# Altium schematic symbol library SWITCHES.SchLib: 34 symbols
Pins are listed as number, name and electrical type; pins without a type are passive.

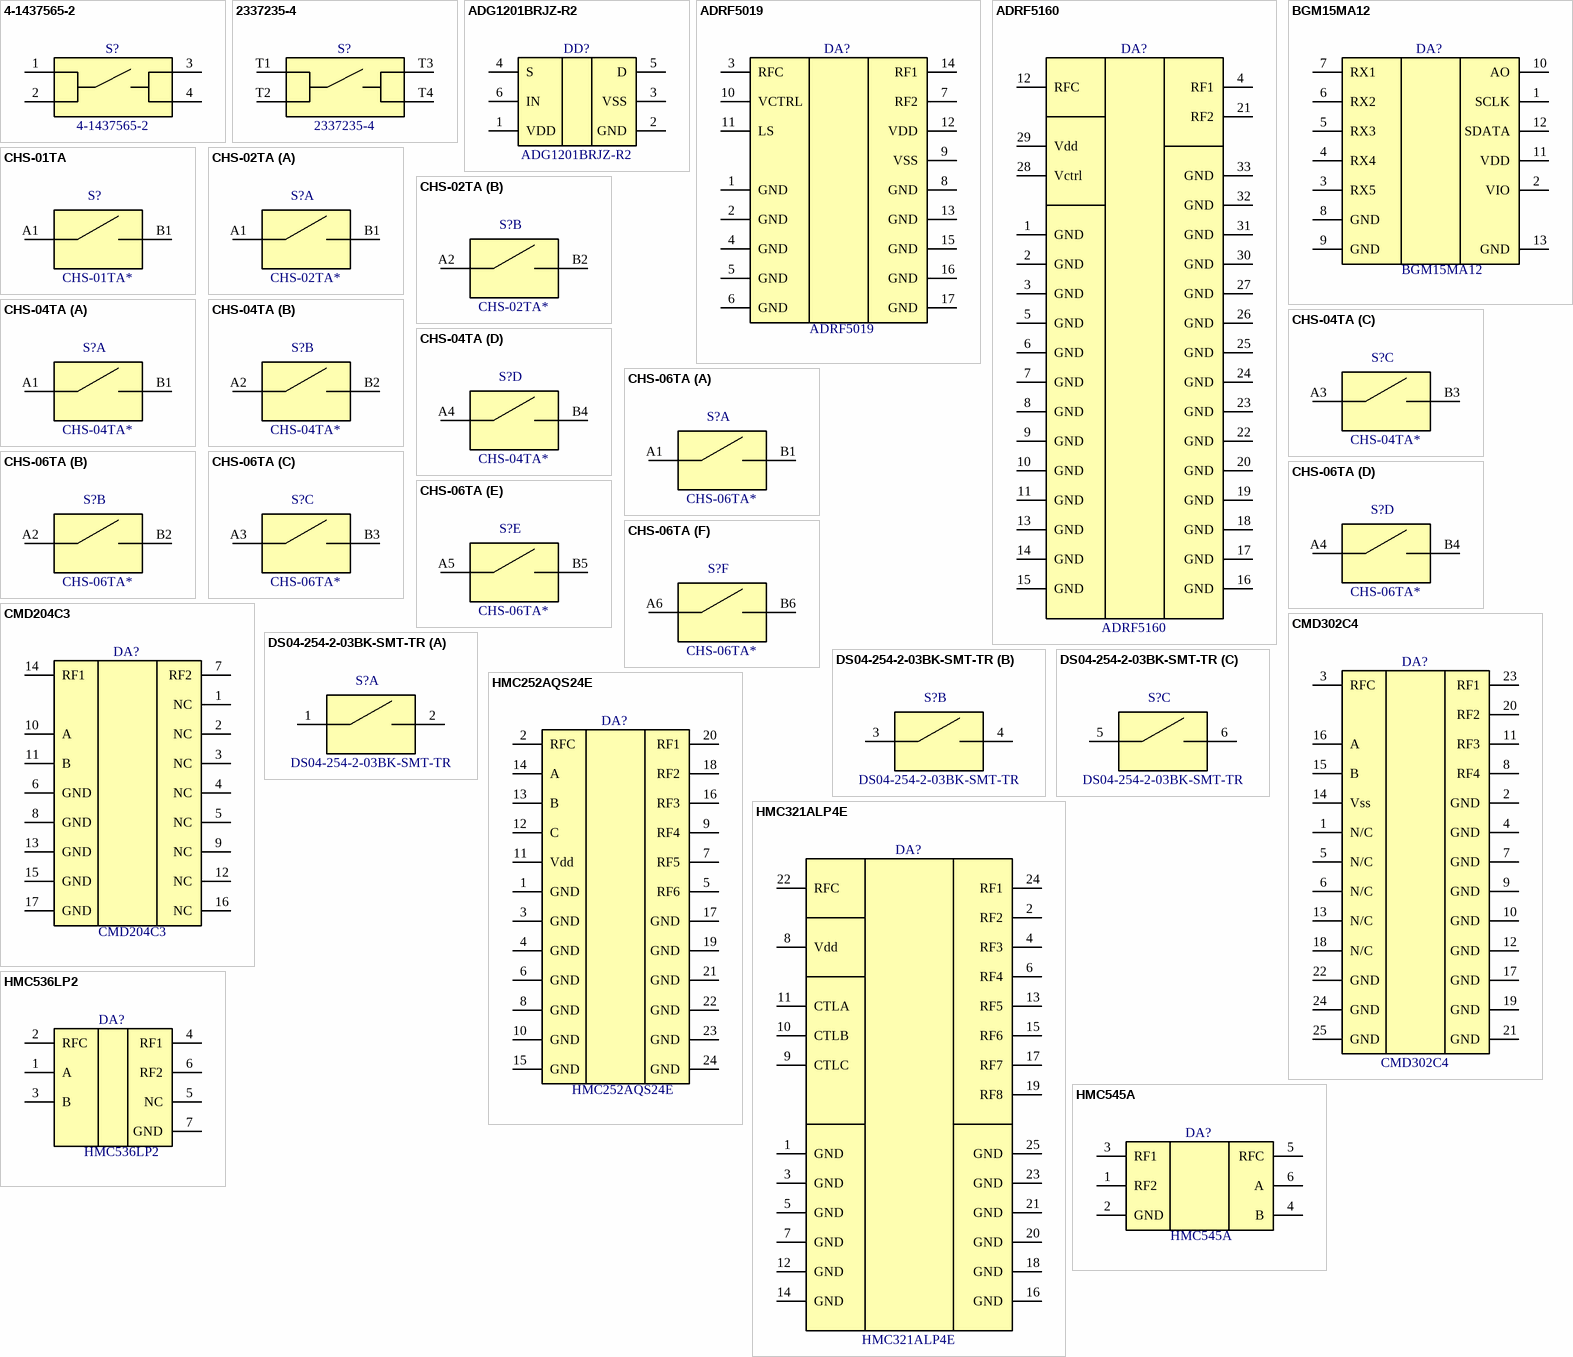
[diagram p0: symbols 4-1437565-2 to HMC545A]

## 4-1437565-2
designator S?
Tactile Switches, Round Actuator Style, NO, Copper Alloy, Silver, Low Profile, 50 mA, 24 VDC; Manufacturer: TE Connectivity; PartNumber: 4-1437565-2; ComponentLink1Description: Product Page; ComponentLink1URL: https://www.te.com/usa-en/product-4-1437565-2.html; FunctionName: *; ComponentLink2Description: DataSheet; ComponentLink2URL: https://www.te.com/usa-en/product-4-1437565-2.datasheet.pdf
footprint 4-1437565-2 (Low Profile 6X6X5 mm BLACK)
footprint 4-1437565-2-FunctionName (Low Profile 6X6X5 mm BLACK)
pins: 1, 2, 3, 4

## 2337235-4
designator S?
Tactile Switches, Round Actuator Style, NO, Stainless Steel, Silver, Low Profile, 50 mA, 12 VDC, Alcoswitch LPT; Manufacturer: TE Connectivity; PartNumber: 2337235-4; ComponentLink1Description: Product Page; ComponentLink1URL: https://www.te.com/usa-en/product-2337235-4.html; FunctionName: *; ComponentLink2Description: DataSheet; ComponentLink2URL: https://www.te.com/usa-en/product-2337235-4.datasheet.pdf
footprint 2337235-4 (TE 4.6X4.4X1.05)
footprint 2337235-4-FunctionName (TE 4.6X4.4X1.05)
pins: T1, T2, T3, T4

## ADG1201BRJZ-R2
designator DD?
Low Capacitance, Low Charge Injection, ±15 V/+12 V, iCMOS, SPST in SOT-23; Manufacturer: Analog Devices; PartNumber: ADG1201BRJZ-R2; ComponentLink1Description: Product Page; ComponentLink1URL: https://www.analog.com/en/products/adg1201.html; ComponentLink2Description: DataSheet; ComponentLink2URL: https://www.analog.com/media/en/technical-documentation/data-sheets/ADG1201.pdf
footprint SOT23-6P95_280X145L45X40N (Small Outline Transistor (SOT23), 0.95 mm pitch; 6 pin, 2.925 mm L X 1.625 mm W X 1.45 mm H body)
pins: 1 VDD, 2 GND, 3 VSS, 4 S, 5 D, 6 IN

## ADRF5019
designator DA?
Silicon, SPDT Switch, Nonreflective,  100 MHz to 13 GHz; Manufacturer: Analog Devices; PartNumber: ADRF5019; ComponentLink1Description: Product Page; ComponentLink1URL: https://www.analog.com/en/products/adrf5019.html; ComponentLink2Description: DataSheet; ComponentLink2URL: https://www.analog.com/media/en/technical-documentation/data-sheets/ADRF5019.pdf
footprint QFN17P50_300X300X95L30X25T170N (Quad Flat No-Lead (QFN with Tab), 0.50 mm pitch; square, 4 pin X 4 pin, 3.00 mm L X 3.00 mm W X 0.95 mm H body)
pins: 1 GND, 2 GND, 3 RFC, 4 GND, 5 GND, 6 GND, 7 RF2, 8 GND, 9 VSS, 10 VCTRL, 11 LS, 12 VDD, 13 GND, 14 RF1, 15 GND, 16 GND, 17 GND

## ADRF5160
designator DA?
Silicon SPDT, / Reflective Switch, 0.7 GHz to 4.0 GHz; Manufacturer: Analog Devices; PartNumber: ADRF5160; ComponentLink1Description: Product Page; ComponentLink1URL: https://www.analog.com/en/products/adrf5160.html; ComponentLink2Description: DataSheet; ComponentLink2URL: https://www.analog.com/media/en/technical-documentation/data-sheets/adrf5160.pdf
footprint QFN33P50_500X500X90L40X25T370N (Quad Flat No-Lead (QFN with Tab), 0.50 mm pitch; square, 8 pin X 8 pin, 5.00 mm L X 5.00 mm W X 0.90 mm H body)
pins: 1 GND, 2 GND, 3 GND, 4 RF1, 5 GND, 6 GND, 7 GND, 8 GND, 9 GND, 10 GND, 11 GND, 12 RFC, 13 GND, 14 GND, 15 GND, 16 GND, 17 GND, 18 GND, 19 GND, 20 GND, 21 RF2, 22 GND, 23 GND, 24 GND, 25 GND, 26 GND, 27 GND, 28 Vctrl, 29 Vdd, 30 GND, 31 GND, 32 GND, 33 GND

## BGM15MA12
designator DA?
Mid-Band LNA Multiplexer Module; Manufacturer: Infineon; PartNumber: BGM15MA12; ComponentLink1Description: Product Page; ComponentLink1URL: https://www.infineon.com/cms/en/product/rf-wireless-control/rf-modules-lmm/bgm15la12/; ComponentLink2Description: DataSheet; ComponentLink2URL: https://www.infineon.com/dgdl/Infineon-BGM15LA12-DS-v03_00-EN.pdf?fileId=5546d462503812bb0150844d0dab46c7
footprint ATSLP-12-2 (Infineon case ATSLP-12-2)
pins: 1 SCLK, 2 VIO, 3 RX5, 4 RX4, 5 RX3, 6 RX2, 7 RX1, 8 GND, 9 GND, 10 AO, 11 VDD, 12 SDATA, 13 GND

## CHS-01TA
designator S?, comment CHS-01TA*
Low profile DIP-switch 1bit washable; Manufacturer: Nidec Copal Electronics; PartNumber: CHS-01TA*; ComponentLink1Description: Product Page; ComponentLink1URL: https://www.nidec-copal-electronics.com/e/product/detail/00000603/#; ComponentLink2Description: DataSheet; ComponentLink2URL: https://www.nidec-copal-electronics.com/e/catalog/switch/chs.pdf
footprint CHS-01TA (Nicel Copal Electronics Low Profile)
pins: A1, B1

## CHS-02TA
designator S?, comment CHS-02TA*
Low profile DIP-switch 2bit washable; Manufacturer: Nidec Copal Electronics; PartNumber: CHS-02TA*; ComponentLink1Description: Product Page; ComponentLink1URL: https://www.nidec-copal-electronics.com/e/product/detail/00000603/#; ComponentLink2Description: DataSheet; ComponentLink2URL: https://www.nidec-copal-electronics.com/e/catalog/switch/chs.pdf
footprint CHS-02TA (Nicel Copal Electronics Low Profile)
part A pins: A1, B1
part B pins: A2, B2

## CHS-04TA
designator S?, comment CHS-04TA*
Low profile DIP-switch 4bit washable; Manufacturer: Nidec Copal Electronics; PartNumber: CHS-04TA*; ComponentLink1Description: Product Page; ComponentLink1URL: https://www.nidec-copal-electronics.com/e/product/detail/00000603/#; ComponentLink2Description: DataSheet; ComponentLink2URL: https://www.nidec-copal-electronics.com/e/catalog/switch/chs.pdf
footprint CHS-04TA (Nicel Copal Electronics Low Profile)
part A pins: A1, B1
part B pins: A2, B2
part C pins: A3, B3
part D pins: A4, B4

## CHS-06TA
designator S?, comment CHS-06TA*
Low profile DIP-switch 6bit washable; Manufacturer: Nidec Copal Electronics; PartNumber: CHS-06TA*; ComponentLink1Description: Product Page; ComponentLink1URL: https://www.nidec-copal-electronics.com/e/product/detail/00000603/#; ComponentLink2Description: DataSheet; ComponentLink2URL: https://www.nidec-copal-electronics.com/e/catalog/switch/chs.pdf
footprint CHS-06TA (Nicel Copal Electronics Low Profile)
part A pins: A1, B1
part B pins: A2, B2
part C pins: A3, B3
part D pins: A4, B4
part E pins: A5, B5
part F pins: A6, B6

## CMD204C3
designator DA?
DC-20 GHz SPST Non-reflective Switch; Manufacturer: Qorvo; PartNumber: CMD204C3; ComponentLink1Description: Product Page; ComponentLink1URL: https://www.qorvo.com/products/p/CMD204C3; ComponentLink2Description: DataSheet; ComponentLink2URL: https://www.qorvo.com/products/d/da007468
footprint PQFN17P50_290X290X90L32X30T150N (Pullback Quad Flat No-Lead (PQFN with Tab), 0.50 mm pitch; square, 4 pin X 4 pin, 2.90 mm L X 2.90 mm W X 0.90 mm H body)
pins: 1 NC, 2 NC, 3 NC, 4 NC, 5 NC, 6 GND, 7 RF2, 8 GND, 9 NC, 10 A, 11 B, 12 NC, 13 GND, 14 RF1, 15 GND, 16 NC, 17 GND

## CMD302C4
designator DA?
DC-20 GHz SP4T Non-reflective Switch; Manufacturer: Qorvo; PartNumber: CMD302C4; ComponentLink1Description: Product Page; ComponentLink1URL: https://www.qorvo.com/products/p/CMD302C4; ComponentLink2Description: DataSheet; ComponentLink2URL: https://www.qorvo.com/products/d/da007697
footprint PQFN25P50_390X390X100L32X30T250N (Pullback Quad Flat No-Lead (PQFN with Tab), 0.50 mm pitch; square, 6 pin X 6 pin, 3.90 mm L X 3.90 mm W X 1.00 mm H body)
pins: 1 N/C, 2 GND, 3 RFC, 4 GND, 5 N/C, 6 N/C, 7 GND, 8 RF4, 9 GND, 10 GND, 11 RF3, 12 GND, 13 N/C, 14 Vss, 15 B, 16 A, 17 GND, 18 N/C, 19 GND, 20 RF2, 21 GND, 22 GND, 23 RF1, 24 GND, 25 GND

## DS04-254-2-03BK-SMT-TR
designator S?
Same Sky DIP-Switch, DS04-254-SMT Series, 3 pos; PartNumber: DS04-254-2-03BK-SMT-TR; Manufacturer: Same Sky; ComponentLink1Description: Product Page; ComponentLink1URL: https://www.sameskydevices.com/product/switches/dip-switches/ds04-254-2-03bk-smt-tr; ComponentLink2Description: DataSheet; ComponentLink2URL: https://www.sameskydevices.com/product/resource/ds04-254-smt.pdf
footprint DS04-254-2-03BK-SMT-TR (Same Sky DIP-Switch, DS04-254-SMT Series, 3 pos)
part A pins: 1, 2
part B pins: 3, 4
part C pins: 5, 6

## HMC252AQS24E
designator DA?
GaAs MMIC SP6T NON-REFLECTIVESWITCH, DC - 3 GHz; Manufacturer: Analog Devices; PartNumber: HMC252AQS24E; ComponentLink1Description: Product Page; ComponentLink1URL: https://www.analog.com/en/products/hmc252a.html; ComponentLink2Description: DataSheet; ComponentLink2URL: https://www.analog.com/media/en/technical-documentation/data-sheets/hmc252A.pdf
footprint SOP64P600X175-24N (SOP, 24-Leads, Body 8.65x3.90mm, Pitch 0.64mm, IPC Medium Density)
pins: 1 GND, 2 RFC, 3 GND, 4 GND, 5 RF6, 6 GND, 7 RF5, 8 GND, 9 RF4, 10 GND, 11 Vdd, 12 C, 13 B, 14 A, 15 GND, 16 RF3, 17 GND, 18 RF2, 19 GND, 20 RF1, 21 GND, 22 GND, 23 GND, 24 GND

## HMC321ALP4E
designator DA?
SP8T NON-REFLECTIVE / POSITIVE CONTROL SWITCH, DC - 8 GHz; Manufacturer: Analog Devices; ComponentLink1Description: Product Page; ComponentLink1URL: https://www.analog.com/en/products/hmc321a.html; PartNumber: HMC321ALP4E; ComponentLink2Description: DataSheet; ComponentLink2URL: https://www.analog.com/media/en/technical-documentation/data-sheets/HMC1118.pdf
footprint QFN25P50_400X400X95L40X25T270N (Quad Flat No-Lead (QFN with Tab), 0.50 mm pitch; square, 6 pin X 6 pin, 4.00 mm L X 4.00 mm W X 0.95 mm H body)
pins: 1 GND, 2 RF2, 3 GND, 4 RF3, 5 GND, 6 RF4, 7 GND, 8 Vdd, 9 CTLC, 10 CTLB, 11 CTLA, 12 GND, 13 RF5, 14 GND, 15 RF6, 16 GND, 17 RF7, 18 GND, 19 RF8, 20 GND, 21 GND, 22 RFC, 23 GND, 24 RF1, 25 GND

## HMC536LP2
designator DA?
GaAs MMIC POSITIVE CONTROL T/R SWITCH, DC - 6 GHz; Manufacturer: Analog Devices; PartNumber: HMC536LP2; ComponentLink1Description: Product Page; ComponentLink1URL: https://www.analog.com/en/products/hmc536lp2.html; ComponentLink2Description: DataSheet; ComponentLink2URL: https://www.analog.com/media/en/technical-documentation/data-sheets/hmc536chips.pdf
footprint SON7P65_200X200X100L35X25T140X80N (Small Outline No-Lead (SON with Tab), 0.65 mm pitch; 6 pin, 2.00 mm L X 2.00 mm W X 1.00 mm H body)
pins: 1 A, 2 RFC, 3 B, 4 RF1, 5 NC, 6 RF2, 7 GND

## HMC545A
designator DA?
GaAs MMIC SPDT SWITCH, DC - 3 GHz; Manufacturer: Analog Devices; PartNumber: HMC545A; ComponentLink1Description: Product Page; ComponentLink1URL: https://www.analog.com/en/products/hmc545a.html; ComponentLink2Description: DataSheet; ComponentLink2URL: https://www.analog.com/media/en/technical-documentation/data-sheets/HMC545A_545AE.pdf
footprint SOP6P95_290X280X145L45X40N (Small Outline Pkg (SOP), 0.95 mm pitch; 6 pin, 2.90 mm L X 1.60 mm W X 1.45 mm H body)
pins: 1 RF2, 2 GND, 3 RF1, 4 B, 5 RFC, 6 A

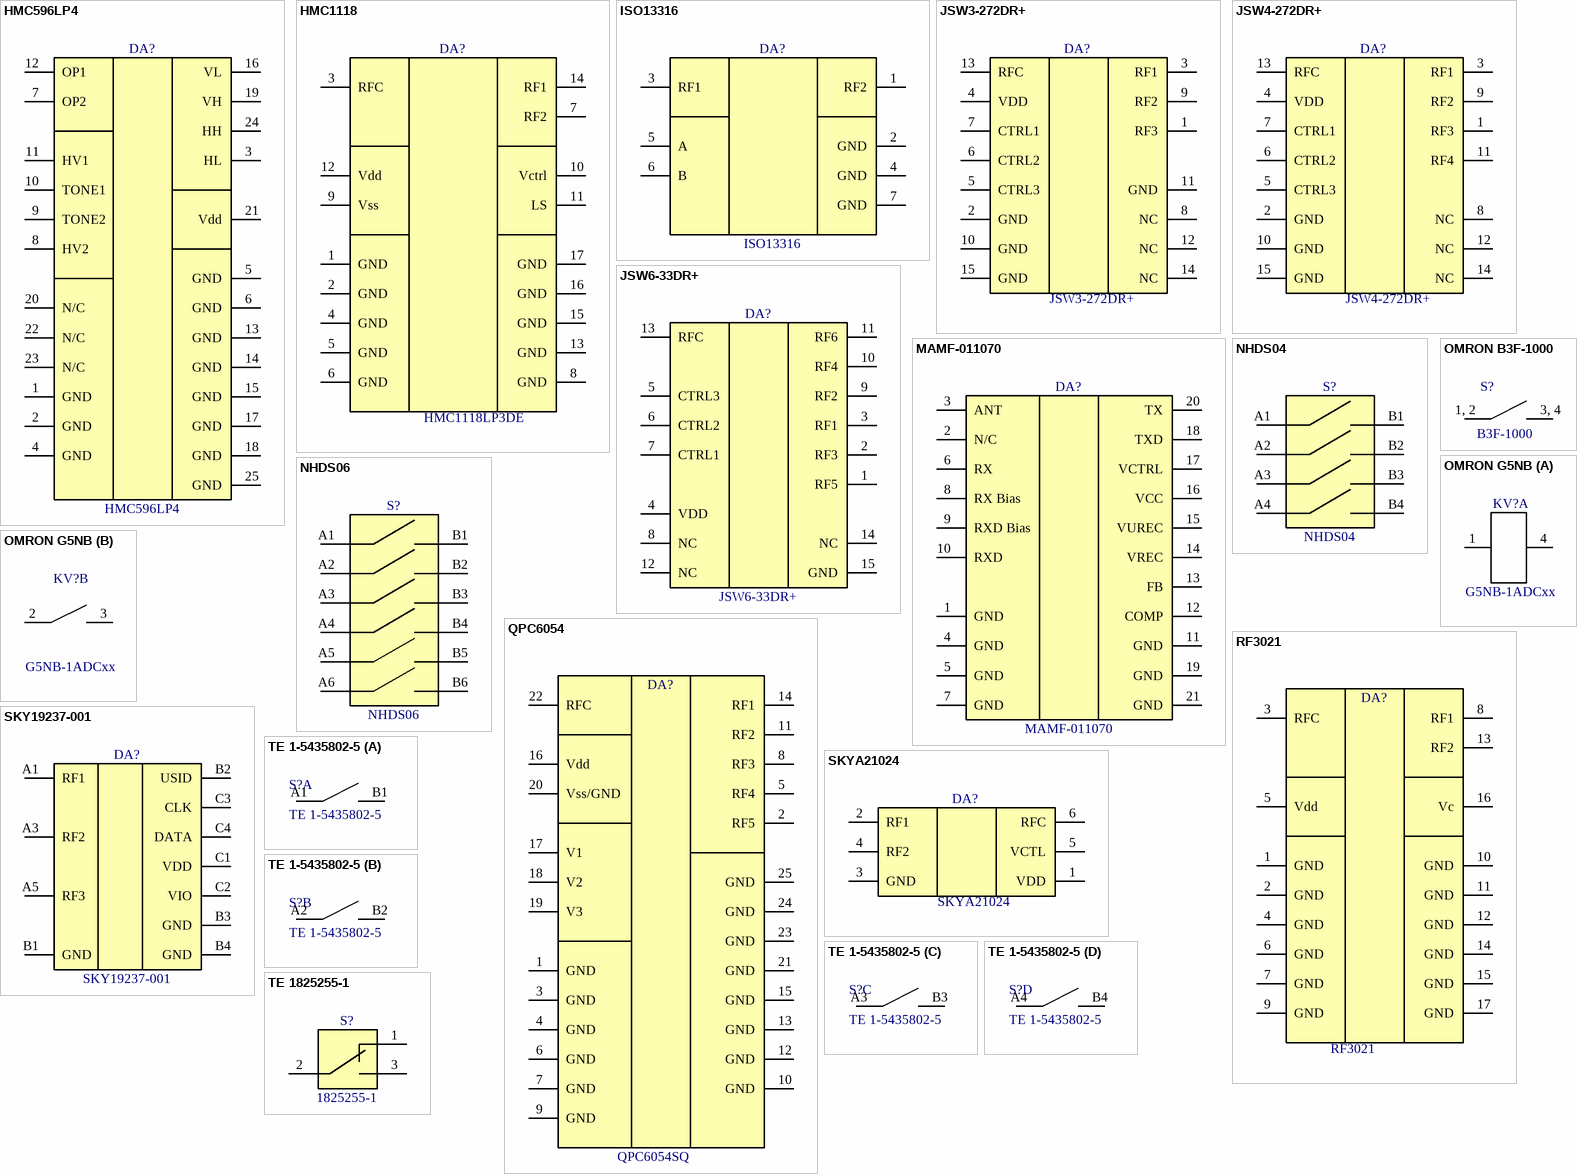
[diagram p1: symbols HMC596LP4 to TE 1825255-1]

## HMC596LP4
designator DA?
SMT CMOS 4x2 SWITCH MATRIX, 0.2 - 3.0 GHz; Manufacturer: Analog Devices; PartNumber: HMC596LP4; ComponentLink1Description: Product Page; ComponentLink1URL: https://www.analog.com/en/products/hmc596.html; ComponentLink2Description: DataSheet; ComponentLink2URL: https://www.analog.com/media/en/technical-documentation/data-sheets/hmc596.pdf
footprint QFN25P50_400X400X100L40X24T280N (Quad Flat No-Lead (QFN with Tab), 0.50 mm pitch; square, 6 pin X 6 pin, 4.00 mm L X 4.00 mm W X 1.00 mm H body)
pins: 1 GND, 2 GND, 3 HL, 4 GND, 5 GND, 6 GND, 7 OP2, 8 HV2, 9 TONE2, 10 TONE1, 11 HV1, 12 OP1, 13 GND, 14 GND, 15 GND, 16 VL, 17 GND, 18 GND, 19 VH, 20 N/C, 21 Vdd, 22 N/C, 23 N/C, 24 HH, 25 GND

## HMC1118
designator DA?, comment HMC1118LP3DE
High Isolation Nonreflective Switch, 9 kHz to 13.0 GHz; Manufacturer: Analog Devices; ComponentLink1Description: Product Page; ComponentLink1URL: https://www.analog.com/en/products/HMC1118.html; PartNumber: HMC1118LP3DE; ComponentLink2Description: DataSheet; ComponentLink2URL: https://www.analog.com/media/en/technical-documentation/data-sheets/HMC1118.pdf
footprint PQFN50P300X300X85_HS-17M (PQFN, 16-Leads, Body 3,00x3,00mm, Pitch 0,50mm, Thermal Pad 1,50x1,50mm, IPC Low Density)
pins: 1 GND, 2 GND, 3 RFC, 4 GND, 5 GND, 6 GND, 7 RF2, 8 GND, 9 Vss, 10 Vctrl, 11 LS, 12 Vdd, 13 GND, 14 RF1, 15 GND, 16 GND, 17 GND

## ISO13316
designator DA?
Non-Reflective Switch, DC to 6 GHz; Manufacturer: Skyworks; PartNumber: ISO13316; ComponentLink1Description: Product Page; ComponentLink1URL: https://www.skyworksinc.com/en/Products/switches/ISO13316; ComponentLink2Description: DataSheet; ComponentLink2URL: https://www.skyworksinc.com/-/media/SkyWorks/Documents/Products/2601-2700/ISO13316_203249B.pdf
footprint ISO-13316
pins: 1 RF2, 2 GND, 3 RF1, 4 GND, 5 A, 6 B, 7 GND

## JSW3-272DR+
designator DA?
Reflective SP3T, SMT Solid State Switch, 5 - 2700 MHz, 50Ω; Manufacturer: Mini-Circuits; PartNumber: JSW3-272DR+; ComponentLink1Description: Product Page; ComponentLink1URL: https://www.minicircuits.com/WebStore/dashboard.html?model=JSW3-272DR%2B; ComponentLink2Description: DataSheet; ComponentLink2URL: https://www.minicircuits.com/WebStore/dashboardPdf?model=JSW3-272DR%2B
footprint MT1817 (Mini-Circuits case MT1817)
pins: 1 RF3, 2 GND, 3 RF1, 4 VDD, 5 CTRL3, 6 CTRL2, 7 CTRL1, 8 NC, 9 RF2, 10 GND, 11 GND, 12 NC, 13 RFC, 14 NC, 15 GND

## JSW4-272DR+
designator DA?
SP4T RF Switch 50Ω 5 to 2700 MHz High Power 3W; Manufacturer: Mini-Circuits; PartNumber: JSW4-272DR+; ComponentLink1Description: Product Page; ComponentLink1URL: https://www.minicircuits.com/WebStore/dashboard.html?model=JSW4-272DR%2B; ComponentLink2Description: DataSheet; ComponentLink2URL: https://www.minicircuits.com/WebStore/dashboardPdf?model=JSW4-272DR%2B
footprint MT1817 (Mini-Circuits case MT1817)
pins: 1 RF3, 2 GND, 3 RF1, 4 VDD, 5 CTRL3, 6 CTRL2, 7 CTRL1, 8 NC, 9 RF2, 10 GND, 11 RF4, 12 NC, 13 RFC, 14 NC, 15 GND

## JSW6-33DR+
designator DA?
SP6T RF Switch 50Ω 5 to 2700 MHz High Power 3W; Manufacturer: Mini-Circuits; PartNumber: JSW6-33DR+; ComponentLink1Description: Product Page; ComponentLink1URL: https://www.minicircuits.com/WebStore/dashboard.html?model=JSW6-33DR%2B; ComponentLink2Description: DataSheet; ComponentLink2URL: https://www.minicircuits.com/WebStore/dashboardPdf?model=JSW6-33DR%2B
footprint MT1817 (Mini-Circuits case MT1817)
pins: 1 RF5, 2 RF3, 3 RF1, 4 VDD, 5 CTRL3, 6 CTRL2, 7 CTRL1, 8 NC, 9 RF2, 10 RF4, 11 RF6, 12 NC, 13 RFC, 14 NC, 15 GND

## MAMF-011070
designator DA?
High Power Switch with Integrated Bias Control; Manufacturer: MACOM; PartNumber: MAMF-011070; ComponentLink1Description: Product Page; ComponentLink1URL: https://www.macom.com/products/product-detail/MAMF-011070; ComponentLink2Description: DataSheet; ComponentLink2URL: https://cdn.macom.com/datasheets/MAMF-011070.pdf
footprint QFN21P65_500X500X160L47X30T320N (Quad Flat No-Lead (QFN with Tab), 0.65 mm pitch; square, 5 pin X 5 pin, 5.00 mm L X 5.00 mm W X 1.60 mm H body)
pins: 1 GND, 2 N/C, 3 ANT, 4 GND, 5 GND, 6 RX, 7 GND, 8 RX Bias, 9 RXD Bias, 10 RXD, 11 GND, 12 COMP, 13 FB, 14 VREC, 15 VUREC, 16 VCC, 17 VCTRL, 18 TXD, 19 GND, 20 TX, 21 GND

## NHDS04
designator S?
SWITCH SLIDE DIP SPST 25MA 24V 4POS ON; Manufacturer: Omron; PartNumber: NHDS04
footprint DIP4_SOIC8P127_631X670X145L65X40 (DIP4 based on Small Outline IC (SOIC), 1.27 mm pitch; 8 pin, 6.31 mm L X 4.50 mm W X 1.45 mm H body)
pins: A1, A2, A3, A4, B1, B2, B3, B4

## NHDS06
designator S?
SWITCH SLIDE DIP SPST 25MA 24V 6POS ON; Manufacturer: Omron; PartNumber: NHDS06
footprint DIP6_SOIC12P127_885X670X145L65X40 (DIP6 based on Small Outline IC (SOIC), 1.27 mm pitch; 12 pin, 8.85 mm L X 4.50 mm W X 1.45 mm H body)
pins: A1, A2, A3, A4, A5, A6, B1, B2, B3, B4, B5, B6

## OMRON B3F-1000
designator S?, comment B3F-1000
Tactile Switch 6x6x4.3, Ivory; Manufacturer: Omron; PartNumber: B3F-1000; ComponentLink1Description: Product Page; ComponentLink1URL: https://components.omron.com/eu-en/products/switches/B3F; ComponentLink2Description: DataSheet; ComponentLink2URL: https://components.omron.com/eu-en/asset/54416; FunctionName: *
footprint OMRON B3F-1000 (Tactile Switch 6x6x4.3, Ivory)
pins: 1, 2 IN1, 3, 4 IN2

## OMRON G5NB
designator KV?, comment G5NB-1ADCxx
A Slim Compact Relay with 3 A Switching / Capability and 10-kV Impulse Withstand / Voltage, Form A (SPST-NO), No Polatity; Manufacturer: Omron; PartNumber: G5NB-1ADCxx
footprint OMRON G5NB (4 pin Relay 20.4x7.0x15.0)
part A pins: 1, 4
part B pins: 2, 3

## QPC6054
designator DA?, comment QPC6054SQ
High Isolation SP5T Switch 5 MHz to 6000 MHz; Manufacturer: Qorvo; PartNumber: QPC6054SQ; ComponentLink1Description: Product Page; ComponentLink1URL: https://www.qorvo.com/products/p/QPC6054; ComponentLink2Description: DataSheet; ComponentLink2URL: https://www.qorvo.com/products/d/da000273
footprint QFN25P50_400X400X95L40X25T270N (Quad Flat No-Lead (QFN with Tab), 0.50 mm pitch; square, 6 pin X 6 pin, 4.00 mm L X 4.00 mm W X 0.95 mm H body)
pins: 1 GND, 2 RF5, 3 GND, 4 GND, 5 RF4, 6 GND, 7 GND, 8 RF3, 9 GND, 10 GND, 11 RF2, 12 GND, 13 GND, 14 RF1, 15 GND, 16 Vdd, 17 V1, 18 V2, 19 V3, 20 Vss/GND, 21 GND, 22 RFC, 23 GND, 24 GND, 25 GND

## RF3021
designator DA?
High Isolation, Single Bit Control,Reflective Switch; Manufacturer: Qorvo; ComponentLink1Description: Product Page; ComponentLink1URL: https://www.qorvo.com/products/p/RF3021; PartNumber: RF3021; ComponentLink2Description: DataSheet; ComponentLink2URL: https://www.qorvo.com/products/d/da000416
footprint PQFN50P300X300X85_HS-17M (PQFN, 16-Leads, Body 3,00x3,00mm, Pitch 0,50mm, Thermal Pad 1,50x1,50mm, IPC Low Density)
pins: 1 GND, 2 GND, 3 RFC, 4 GND, 5 Vdd, 6 GND, 7 GND, 8 RF1, 9 GND, 10 GND, 11 GND, 12 GND, 13 RF2, 14 GND, 15 GND, 16 Vc, 17 GND

## SKY19237-001
designator DA?
0.7 to 2.7 GHz Triple SPST (3xSPST) Shunt MIPI® Antenna Tuning Switch; Manufacturer: Skyworks; PartNumber: SKY19237-001; ComponentLink1Description: Product Page; ComponentLink1URL: https://www.skyworksinc.com/en/Products/switches/SKY19237-001; ComponentLink2Description: DataSheet; ComponentLink2URL: https://www.skyworksinc.com/-/media/SkyWorks/Documents/Products/2201-2300/SKY19237-001_203679H.pdf
footprint SKY19237-001 (Skyworks BGA SKY19237-001 1.685x1.775x0.547)
pins: A1 RF1, A3 RF2, A5 RF3, B1 GND, B2 USID, B3 GND, B4 GND, C1 VDD, C2 VIO, C3 CLK, C4 DATA

## SKYA21024
designator DA?
0.01 TO 6.0 GHz SINGLE CONTROL SPDT SWITCH; Manufacturer: Skyworks; PartNumber: SKYA21024; ComponentLink1Description: Product Page; ComponentLink1URL: https://www.skyworksinc.com/en/Products/switches/SKYA21024; ComponentLink2Description: DataSheet; ComponentLink2URL: https://www.skyworksinc.com/-/media/SkyWorks/Documents/Products/2701-2800/SKYA21024_204618C.pdf
footprint SKYA21024 (Slyworks SKYA21024)
pins: 1 VDD, 2 RF1, 3 GND, 4 RF2, 5 VCTL, 6 RFC

## TE 1-5435802-5
designator S?
RIGHT ANGLE DIP SW 4 P SEALED; Manufacturer: TE Connectivity; PartNumber: TE 1-5435802-5; ComponentLink1Description: Product Page; ComponentLink1URL: https://www.te.com/usa-en/product-1-5435802-5.html
footprint TE 1-5435802-5 (RIGHT ANGLE DIP SW 4 P SEALED)
part A pins: A1, B1
part B pins: A2, B2
part C pins: A3, B3
part D pins: A4, B4

## TE 1825255-1
designator S?, comment 1825255-1
Slide Switches, Single Pole - Double Throw Configuration (Pole-Throw), Vertical, Copper Alloy, Single Actuator, 2 Position, On None On, Alcoswitch MHS; Manufacturer: TE Connectivity; PartNumber: 1825255-1; ComponentLink1Description: Product Page; ComponentLink1URL: https://www.te.com/usa-en/product-1825255-1.html; State_2-1: *; ComponentLink2Description: DataSheet; ComponentLink2URL: https://www.te.com/commerce/DocumentDelivery/DDEController?Action=showdoc&DocId=Customer+Drawing%7F1825255%7FB2%7Fpdf%7FEnglish%7FENG_CD_1825255_B2.pdf%7F1825255-1; State_2-3: *
footprint TE 1825255-1 (Slide Switches, Single Pole - Double Throw Configuration (Pole-Throw), Vertical, Copper Alloy, Single Actuator, 2 Position, On None On)
pins: 1, 2, 3